# Altium footprint library Misc.PcbLib: 21 footprints (part 2 of 2)
Each footprint in its own frame and in the unit in brackets; x right, y up, seen from the top. Pads: shape width x height; smd on the part's side, far side on the other; paste and mask are expansions set on the pad; w line width, h text height; cw(c..) or ccw(c..) is an arc to the next point about the centre after c.
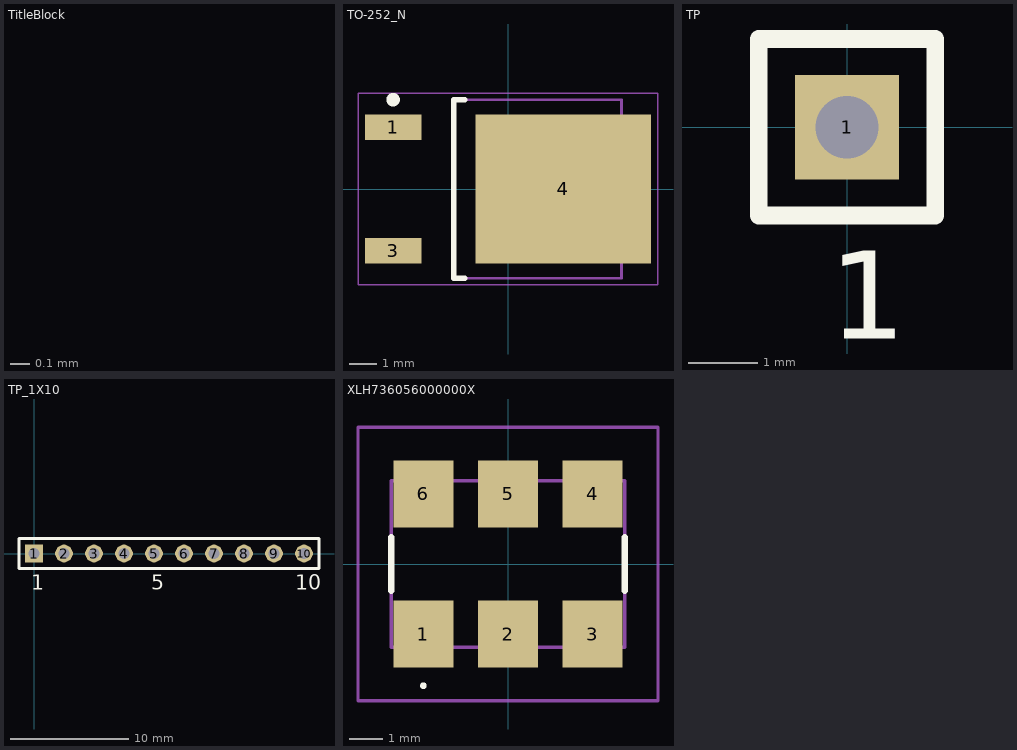
[diagram p1: the footprints below, top view; thin cyan lines are the x and y axes]

## TitleBlock [mm]
Top Overlay:
  text "(c) ABS Data Systems, Inc" at 0.254,0.762 h1.52

## TO-252_N [mm] "D-PAK, 4-Leads, Body 6.1x6.5mm, Pitch 2.28mm, Lead Span 9.7mm, IPC Medium Density"
height 2.4
pads (3):
  rect 2.1x0.95 smd: 1(-4.25,2.28) 3(-4.25,-2.28)
  rect 6.5x5.5 smd: 4(2.05,0)
Top Overlay:
  circle w0.25: c-4.25,3.305 r0.125
  lines w0.2: -1.6,-3.3 -2,-3.3 -2,3.3 -1.6,3.3
Mechanical 13:
  lines w0.1: -2,-3.3 -2,3.3 4.2,3.3 4.2,-3.3 -2,-3.3
Mechanical 15:
  lines w0.05: -5.55,-3.55 -5.55,3.55 5.55,3.55 5.55,-3.55 -5.55,-3.55
  lines w0.1: -0.5,0 0.5,0 ; 0,-0.5 0,0.5
3D body: height 2.4, standoff 0, extent -2,-3.3 4.2,3.3

## TP [mm] "Test Point"
pads (1):
  rect 1.5x1.5 hole 0.9: 1(0,0)
Top Overlay:
  lines w0.254: 0.762,-1.27 1.27,-1.27 ; 1.27,-1.27 1.27,1.27 -1.27,1.27 -1.27,-1.27 1.27,-1.27
  text "1" at -0.254,-3.048 h1.27

## TP_1X10 [mm] "Test Point Header 1X10"
pads (10):
  rect 1.5x1.5 hole 0.9: 1(0,0)
  round 1.5 hole 0.9: 2(2.54,0) 3(5.08,0) 4(7.62,0) 5(10.16,0) 6(12.7,0) 7(15.24,0) 8(17.78,0) 9(20.32,0) 10(22.86,0)
Top Overlay:
  lines w0.254: 11.43,-1.27 24.13,-1.27 24.13,1.27 -1.27,1.27 -1.27,-1.27 11.684,-1.27
  text "5" at 9.906,-3.048 h1.27
  text "10" at 22.098,-3.048 h1.27
  text "1" at -0.254,-3.048 h1.27

## XLH736056000000X [mm]
pads (6):
  rect 1.8x2 smd: 1(-2.54,-2.1) 2(0,-2.1) 3(2.54,-2.1) 4(2.54,2.1) 5(0,2.1) 6(-2.54,2.1)
Top Overlay:
  lines w0.1: -2.54,-3.7 ccw(c-2.54,-3.65) -2.54,-3.6 ccw(c-2.54,-3.65) -2.54,-3.7
  lines w0.2: -3.5,-0.8 -3.5,0.8 ; 3.5,-0.8 3.5,0.8
Mechanical 13:
  lines w0.1: -3.5,-2.5 3.5,-2.5 3.5,2.5 -3.5,2.5 -3.5,-2.5
Mechanical 15:
  lines w0.1: -4.5,-4.1 4.5,-4.1 4.5,4.1 -4.5,4.1 -4.5,-4.1
3D body "XLH736056.000000X.stp": height 1.55, standoff 0, extent -3.5,-2.92 3.5,2.92